# Altium schematic symbol library TSW-130-15-G-S.SchLib: 1 symbol
Pins are listed as number, name and electrical type; pins without a type are passive.

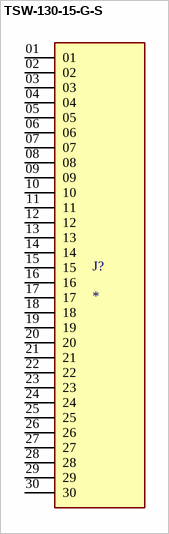
[diagram p0: symbol TSW-130-15-G-S]

## TSW-130-15-G-S
designator J?
MF: {'manufacturer': u'Samtec'}; MP: TSW-130-15-G-S; Price: None; Value: *; Availability: Unavailable; Package: None
footprint SAMTEC_TSW-130-15-G-S
pins: 01, 02, 03, 04, 05, 06, 07, 08, 09, 10, 11, 12, 13, 14, 15, 16, 17, 18, 19, 20, 21, 22, 23, 24, 25, 26, 27, 28, 29, 30